# Altium footprint library Calibration_Scale.PcbLib: 19 footprints (part 1 of 2)
Each footprint in its own frame and in the unit in brackets; x right, y up, seen from the top. Pads: shape width x height; smd on the part's side, far side on the other; paste and mask are expansions set on the pad; w line width, h text height; cw(c..) or ccw(c..) is an arc to the next point about the centre after c.
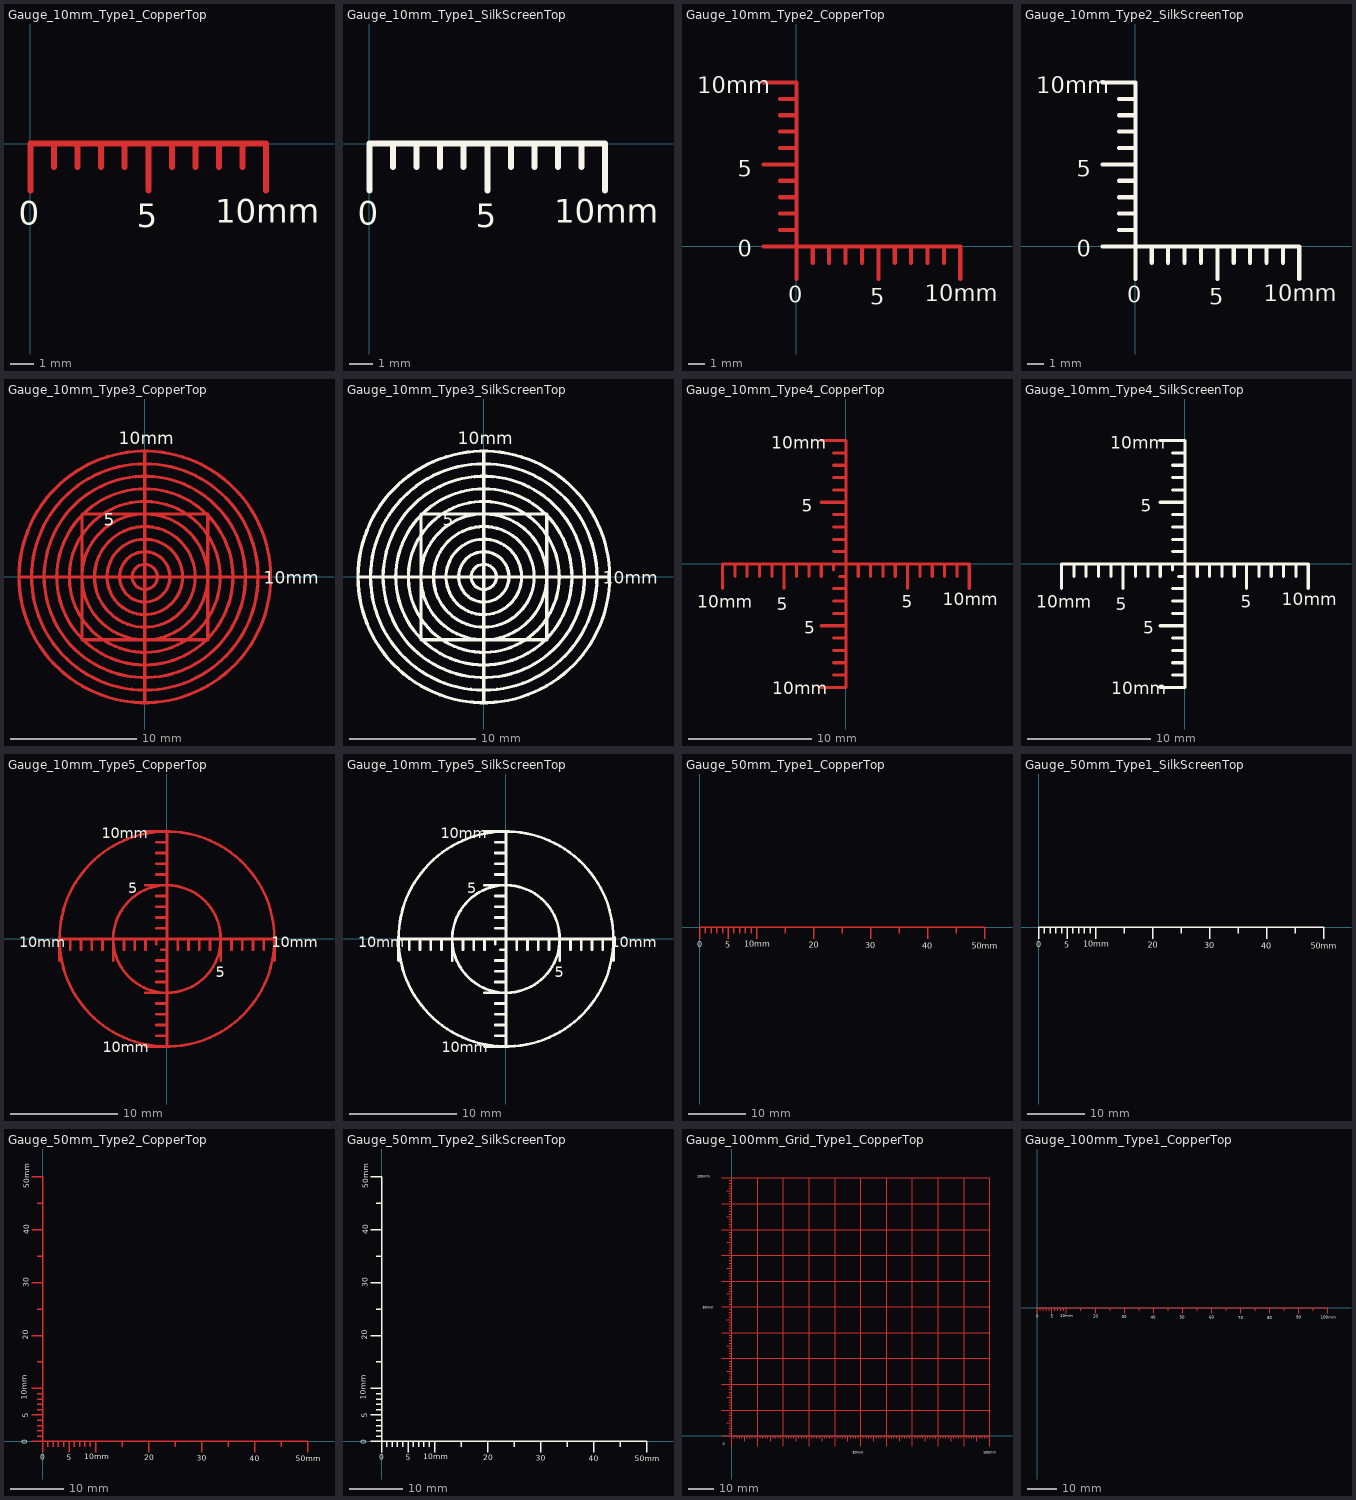
[diagram p0: the footprints below, top view; thin cyan lines are the x and y axes]

## Gauge_10mm_Type1_CopperTop [mm]
F.Cu:
  lines w0.254: 0,-1.999 0,0 10,0 10,-1.999 ; 1.001,-1.001 1.001,0 ; 1.999,-1.001 1.999,0 ; 3,-1.001 3,0 ; 4,-1.001 4,0 ; 5.001,-1.999 5.001,0 ; 5.999,-1.001 5.999,0 ; 7,-1.001 7,0 ; 8.001,-1.001 8.001,0 ; 8.999,-1.001 8.999,0
F.SilkS:
  text "0" at -0.483,-3.449 h1
  text "10mm" at 7.834,-3.35 h1
  text "5" at 4.515,-3.551 h1
Top Assembly:
  text "'.Designator'" at -4.047,2.159 h1
Top Designator:
  text ".Designator" at -3.708,-0.68 h1.52

## Gauge_10mm_Type1_SilkScreenTop [mm]
F.SilkS:
  lines w0.254: 0,-1.999 0,0 10,0 10,-1.999 ; 1.001,-1.001 1.001,0 ; 1.999,-1.001 1.999,0 ; 3,-1.001 3,0 ; 4,-1.001 4,0 ; 5.001,-1.999 5.001,0 ; 5.999,-1.001 5.999,0 ; 7,-1.001 7,0 ; 8.001,-1.001 8.001,0 ; 8.999,-1.001 8.999,0
  text "10mm" at 7.834,-3.35 h1
  text "5" at 4.515,-3.551 h1
  text "0" at -0.483,-3.449 h1
Top Assembly:
  text "'.Designator'" at -4.047,2.159 h1
Top Designator:
  text ".Designator" at -3.708,-0.68 h1.52

## Gauge_10mm_Type2_CopperTop [mm]
F.Cu:
  lines w0.254: -1.999,0 0,0 ; -1.999,5.001 0,5.001 ; -1.999,10 0,10 0,0 ; -1.001,1.001 0,1.001 ; -1.001,1.999 0,1.999 ; -1.001,3 0,3 ; -1.001,4 0,4 ; -1.001,5.999 0,5.999 ; -1.001,7 0,7 ; -1.001,8.001 0,8.001 ; -1.001,8.999 0,8.999 ; 0,-1.999 0,0 ; 1.001,-1.001 1.001,0 ; 1.999,-1.001 1.999,0 ; 3,-1.001 3,0 ; 4,-1.001 4,0 ; 5.001,-1.999 5.001,0 ; 5.999,-1.001 5.999,0 ; 7,-1.001 7,0 ; 8.001,-1.001 8.001,0 ; 8.999,-1.001 8.999,0 ; 10,-1.999 10,0 0,0
F.SilkS:
  text "0" at -0.483,-3.449 h1
  text "10mm" at -6.068,9.35 h1
  text "5" at 4.515,-3.551 h1
  text "0" at -3.585,-0.65 h1
  text "10mm" at 7.834,-3.35 h1
  text "5" at -3.585,4.25 h1
Top Assembly:
  text "'.Designator'" at -11.746,-0.64 h1
Top Designator:
  text ".Designator" at -7.557,2.892 h1.52

## Gauge_10mm_Type2_SilkScreenTop [mm]
F.SilkS:
  lines w0.254: -1.999,0 0,0 ; -1.999,5.001 0,5.001 ; -1.999,10 0,10 0,0 ; -1.001,1.001 0,1.001 ; -1.001,1.999 0,1.999 ; -1.001,3 0,3 ; -1.001,4 0,4 ; -1.001,5.999 0,5.999 ; -1.001,7 0,7 ; -1.001,8.001 0,8.001 ; -1.001,8.999 0,8.999 ; 0,-1.999 0,0 ; 1.001,-1.001 1.001,0 ; 1.999,-1.001 1.999,0 ; 3,-1.001 3,0 ; 4,-1.001 4,0 ; 5.001,-1.999 5.001,0 ; 5.999,-1.001 5.999,0 ; 7,-1.001 7,0 ; 8.001,-1.001 8.001,0 ; 8.999,-1.001 8.999,0 ; 10,-1.999 10,0 0,0
  text "0" at -0.483,-3.449 h1
  text "5" at 4.515,-3.551 h1
  text "5" at -3.585,4.25 h1
  text "0" at -3.585,-0.65 h1
  text "10mm" at 7.834,-3.35 h1
  text "10mm" at -6.068,9.35 h1
Top Assembly:
  text "'.Designator'" at -11.746,-0.64 h1
Top Designator:
  text ".Designator" at -7.557,2.892 h1.52

## Gauge_10mm_Type3_CopperTop [mm]
F.Cu:
  circle w0.254: c0,0 r10
  circle w0.254: c0,0 r5.001
  circle w0.254: c0,0 r1.001
  circle w0.254: c0,0 r1.999
  circle w0.254: c0,0 r3
  circle w0.254: c0,0 r4
  circle w0.254: c0,0 r5.999
  circle w0.254: c0,0 r7
  circle w0.254: c0,0 r8.001
  circle w0.254: c0,0 r8.999
  lines w0.254: -10,0 -1.999,0 0,0 ; 0,-10 0,-1.999 0,0 ; 0,10 0,0 ; 10,0 0,0 ; -5.001,-5.001 0,-5.001 5.001,-5.001 5.001,0 5.001,5.001 0,5.001 -5.001,5.001 -5.001,0 -5.001,-5.001
F.SilkS:
  text "10mm" at -2.067,10.549 h1
  text "5" at -3.282,4.049 h1
  text "10mm" at 9.434,-0.551 h1
Top Assembly:
  text "'.Designator'" at -18.017,8.05 h1
Top Designator:
  text ".Designator" at -9.893,0.278 h1.52

## Gauge_10mm_Type3_SilkScreenTop [mm]
F.SilkS:
  circle w0.254: c0,0 r10
  circle w0.254: c0,0 r5.001
  circle w0.254: c0,0 r1.001
  circle w0.254: c0,0 r1.999
  circle w0.254: c0,0 r3
  circle w0.254: c0,0 r4
  circle w0.254: c0,0 r5.999
  circle w0.254: c0,0 r7
  circle w0.254: c0,0 r8.001
  circle w0.254: c0,0 r8.999
  lines w0.254: -10,0 -1.999,0 0,0 ; 0,-10 0,-1.999 0,0 ; 0,10 0,0 ; 10,0 0,0 ; -5.001,-5.001 0,-5.001 5.001,-5.001 5.001,0 5.001,5.001 0,5.001 -5.001,5.001 -5.001,0 -5.001,-5.001
  text "5" at -3.282,4.049 h1
  text "10mm" at -2.067,10.549 h1
  text "10mm" at 9.434,-0.551 h1
Top Assembly:
  text "'.Designator'" at -18.017,8.05 h1
Top Designator:
  text ".Designator" at -9.893,0.278 h1.52

## Gauge_10mm_Type4_CopperTop [mm]
F.Cu:
  lines w0.254: -10,-1.999 -10,0 0,0 ; -8.999,-1.001 -8.999,0 ; -8.001,-1.001 -8.001,0 ; -7,-1.001 -7,0 ; -5.999,-1.001 -5.999,0 ; -5.001,-1.999 -5.001,0 ; -4,-1.001 -4,0 ; -3,-1.001 -3,0 ; -1.999,-10 0,-10 0,-1.999 ; -1.999,-5.001 0,-5.001 ; -1.999,-1.001 -1.999,0 ; -1.999,5.001 0,5.001 ; -1.999,10 0,10 0,0 ; -1.001,-8.999 0,-8.999 ; -1.001,-8.001 0,-8.001 ; -1.001,-7 0,-7 ; -1.001,-5.999 0,-5.999 ; -1.001,-4 0,-4 ; -1.001,-3 0,-3 ; -1.001,-1.999 0,-1.999 ; -1.001,-0.5 -1.001,0 ; -1.001,1.001 0,1.001 ; -1.001,1.999 0,1.999 ; -1.001,3 0,3 ; -1.001,4 0,4 ; -1.001,5.999 0,5.999 ; -1.001,7 0,7 ; -1.001,8.001 0,8.001 ; -1.001,8.999 0,8.999 ; -0.5,-1.001 0,-1.001 ; 1.001,-1.001 1.001,0 ; 1.999,-1.001 1.999,0 ; 3,-1.001 3,0 ; 4,-1.001 4,0 ; 5.001,-1.999 5.001,0 ; 5.999,-1.001 5.999,0 ; 7,-1.001 7,0 ; 8.001,-1.001 8.001,0 ; 8.999,-1.001 8.999,0 ; 10,-1.999 10,0 0,0 ; 0,-1.999 0,0
F.SilkS:
  text "10mm" at -12.065,-3.551 h1
  text "10mm" at 7.834,-3.35 h1
  text "5" at -3.585,4.25 h1
  text "5" at -3.384,-5.649 h1
  text "5" at 4.515,-3.551 h1
  text "10mm" at -5.966,-10.551 h1
  text "10mm" at -6.068,9.35 h1
  text "5" at -5.584,-3.749 h1
Top Assembly:
  text "'.Designator'" at -4.847,13.16 h1
Top Designator:
  text ".Designator" at -7.717,1.321 h1.52

## Gauge_10mm_Type4_SilkScreenTop [mm]
F.SilkS:
  lines w0.254: -10,-1.999 -10,0 0,0 ; -8.999,-1.001 -8.999,0 ; -8.001,-1.001 -8.001,0 ; -7,-1.001 -7,0 ; -5.999,-1.001 -5.999,0 ; -5.001,-1.999 -5.001,0 ; -4,-1.001 -4,0 ; -3,-1.001 -3,0 ; -1.999,-10 0,-10 0,-1.999 ; -1.999,-5.001 0,-5.001 ; -1.999,-1.001 -1.999,0 ; -1.999,5.001 0,5.001 ; -1.999,10 0,10 0,0 ; -1.001,-8.999 0,-8.999 ; -1.001,-8.001 0,-8.001 ; -1.001,-7 0,-7 ; -1.001,-5.999 0,-5.999 ; -1.001,-4 0,-4 ; -1.001,-3 0,-3 ; -1.001,-1.999 0,-1.999 ; -1.001,-0.5 -1.001,0 ; -1.001,1.001 0,1.001 ; -1.001,1.999 0,1.999 ; -1.001,3 0,3 ; -1.001,4 0,4 ; -1.001,5.999 0,5.999 ; -1.001,7 0,7 ; -1.001,8.001 0,8.001 ; -1.001,8.999 0,8.999 ; -0.5,-1.001 0,-1.001 ; 1.001,-1.001 1.001,0 ; 1.999,-1.001 1.999,0 ; 3,-1.001 3,0 ; 4,-1.001 4,0 ; 5.001,-1.999 5.001,0 ; 5.999,-1.001 5.999,0 ; 7,-1.001 7,0 ; 8.001,-1.001 8.001,0 ; 8.999,-1.001 8.999,0 ; 10,-1.999 10,0 0,0 ; 0,-1.999 0,0
  text "5" at 4.515,-3.551 h1
  text "10mm" at 7.834,-3.35 h1
  text "5" at -3.585,4.25 h1
  text "5" at -3.384,-5.649 h1
  text "5" at -5.584,-3.749 h1
  text "10mm" at -6.068,9.35 h1
  text "10mm" at -5.966,-10.551 h1
  text "10mm" at -12.065,-3.551 h1
Top Assembly:
  text "'.Designator'" at -4.847,13.16 h1
Top Designator:
  text ".Designator" at -7.717,1.321 h1.52

## Gauge_10mm_Type5_CopperTop [mm]
F.Cu:
  circle w0.254: c0,0 r10
  circle w0.254: c0,0 r5.001
  lines w0.254: -10,-1.999 -10,0 0,0 ; -8.999,-1.001 -8.999,0 ; -8.001,-1.001 -8.001,0 ; -7,-1.001 -7,0 ; -5.999,-1.001 -5.999,0 ; -5.001,-1.999 -5.001,0 ; -4,-1.001 -4,0 ; -3,-1.001 -3,0 ; -1.999,-10 0,-10 0,-1.999 ; -1.999,-5.001 0,-5.001 ; -1.999,-1.001 -1.999,0 ; -1.999,5.001 0,5.001 ; -1.999,10 0,10 0,0 ; -1.001,-8.999 0,-8.999 ; -1.001,-8.001 0,-8.001 ; -1.001,-7 0,-7 ; -1.001,-5.999 0,-5.999 ; -1.001,-4 0,-4 ; -1.001,-3 0,-3 ; -1.001,-1.999 0,-1.999 ; -1.001,-0.5 -1.001,0 ; -1.001,1.001 0,1.001 ; -1.001,1.999 0,1.999 ; -1.001,3 0,3 ; -1.001,4 0,4 ; -1.001,5.999 0,5.999 ; -1.001,7 0,7 ; -1.001,8.001 0,8.001 ; -1.001,8.999 0,8.999 ; -0.5,-1.001 0,-1.001 ; 1.001,-1.001 1.001,0 ; 1.999,-1.001 1.999,0 ; 3,-1.001 3,0 ; 4,-1.001 4,0 ; 5.001,-1.999 5.001,0 ; 5.999,-1.001 5.999,0 ; 7,-1.001 7,0 ; 8.001,-1.001 8.001,0 ; 8.999,-1.001 8.999,0 ; 10,-1.999 10,0 0,0 ; 0,-1.999 0,0
F.SilkS:
  text "10mm" at -13.766,-0.749 h1
  text "10mm" at -5.966,-10.551 h1
  text "10mm" at 9.734,-0.749 h1
  text "5" at 4.515,-3.551 h1
  text "10mm" at -6.068,9.35 h1
  text "5" at -3.585,4.25 h1
Top Assembly:
  text "'.Designator'" at -4.847,13.16 h1
Top Designator:
  text ".Designator" at -7.618,1.321 h1.52

## Gauge_10mm_Type5_SilkScreenTop [mm]
F.SilkS:
  circle w0.254: c0,0 r10
  circle w0.254: c0,0 r5.001
  lines w0.254: -10,-1.999 -10,0 0,0 ; -8.999,-1.001 -8.999,0 ; -8.001,-1.001 -8.001,0 ; -7,-1.001 -7,0 ; -5.999,-1.001 -5.999,0 ; -5.001,-1.999 -5.001,0 ; -4,-1.001 -4,0 ; -3,-1.001 -3,0 ; -1.999,-10 0,-10 0,-1.999 ; -1.999,-5.001 0,-5.001 ; -1.999,-1.001 -1.999,0 ; -1.999,5.001 0,5.001 ; -1.999,10 0,10 0,0 ; -1.001,-8.999 0,-8.999 ; -1.001,-8.001 0,-8.001 ; -1.001,-7 0,-7 ; -1.001,-5.999 0,-5.999 ; -1.001,-4 0,-4 ; -1.001,-3 0,-3 ; -1.001,-1.999 0,-1.999 ; -1.001,-0.5 -1.001,0 ; -1.001,1.001 0,1.001 ; -1.001,1.999 0,1.999 ; -1.001,3 0,3 ; -1.001,4 0,4 ; -1.001,5.999 0,5.999 ; -1.001,7 0,7 ; -1.001,8.001 0,8.001 ; -1.001,8.999 0,8.999 ; -0.5,-1.001 0,-1.001 ; 1.001,-1.001 1.001,0 ; 1.999,-1.001 1.999,0 ; 3,-1.001 3,0 ; 4,-1.001 4,0 ; 5.001,-1.999 5.001,0 ; 5.999,-1.001 5.999,0 ; 7,-1.001 7,0 ; 8.001,-1.001 8.001,0 ; 8.999,-1.001 8.999,0 ; 10,-1.999 10,0 0,0 ; 0,-1.999 0,0
  text "5" at -3.585,4.25 h1
  text "10mm" at -13.766,-0.749 h1
  text "10mm" at -5.966,-10.551 h1
  text "10mm" at -6.068,9.35 h1
  text "10mm" at 9.734,-0.749 h1
  text "5" at 4.515,-3.551 h1
Top Assembly:
  text "'.Designator'" at -4.847,13.16 h1
Top Designator:
  text ".Designator" at -7.618,1.321 h1.52

## Gauge_50mm_Type1_CopperTop [mm]
F.Cu:
  lines w0.254: 0,-1.999 0,0 10,0 ; 1.001,-1.001 1.001,0 ; 1.999,-1.001 1.999,0 ; 3,-1.001 3,0 ; 4,-1.001 4,0 ; 5.001,-1.999 5.001,0 ; 5.999,-1.001 5.999,0 ; 7,-1.001 7,0 ; 8.001,-1.001 8.001,0 ; 8.999,-1.001 8.999,0 ; 10,-1.999 10,0 ; 15.001,-1.001 15.001,0 ; 20,-1.999 20,0 ; 25.001,-1.001 25.001,0 ; 30,-1.999 30,0 ; 35.001,-1.001 35.001,0 ; 40,-1.999 40,0 ; 45.001,-1.001 45.001,0 ; 50,-1.999 50,0 10,0
F.SilkS:
  text "40" at 39.072,-3.751 h1
  text "5" at 4.515,-3.551 h1
  text "20" at 19.171,-3.551 h1
  text "30" at 29.072,-3.65 h1
  text "0" at -0.483,-3.449 h1
  text "50mm" at 47.755,-3.751 h1
  text "10mm" at 7.834,-3.35 h1
Top Assembly:
  text "'.Designator'" at -4.047,2.159 h1
Top Designator:
  text ".Designator" at 16.331,-0.78 h1.52

## Gauge_50mm_Type1_SilkScreenTop [mm]
F.SilkS:
  lines w0.254: 0,-1.999 0,0 10,0 ; 1.001,-1.001 1.001,0 ; 1.999,-1.001 1.999,0 ; 3,-1.001 3,0 ; 4,-1.001 4,0 ; 5.001,-1.999 5.001,0 ; 5.999,-1.001 5.999,0 ; 7,-1.001 7,0 ; 8.001,-1.001 8.001,0 ; 8.999,-1.001 8.999,0 ; 10,-1.999 10,0 ; 15.001,-1.001 15.001,0 ; 20,-1.999 20,0 ; 25.001,-1.001 25.001,0 ; 30,-1.999 30,0 ; 35.001,-1.001 35.001,0 ; 40,-1.999 40,0 ; 45.001,-1.001 45.001,0 ; 50,-1.999 50,0 10,0
  text "50mm" at 47.755,-3.751 h1
  text "5" at 4.515,-3.551 h1
  text "30" at 29.072,-3.65 h1
  text "20" at 19.171,-3.551 h1
  text "40" at 39.072,-3.751 h1
  text "0" at -0.483,-3.449 h1
  text "10mm" at 7.834,-3.35 h1
Top Assembly:
  text "'.Designator'" at -4.047,2.159 h1
Top Designator:
  text ".Designator" at 16.331,-0.78 h1.52

## Gauge_50mm_Type2_CopperTop [mm]
F.Cu:
  lines w0.254: -1.999,0 0,0 ; -1.999,5.001 0,5.001 ; -1.999,10 0,10 ; -1.999,20 0,20 ; -1.999,30 0,30 ; -1.999,40 0,40 ; -1.999,50 0,50 0,0 ; -1.001,1.001 0,1.001 ; -1.001,1.999 0,1.999 ; -1.001,3 0,3 ; -1.001,4 0,4 ; -1.001,5.999 0,5.999 ; -1.001,7 0,7 ; -1.001,8.001 0,8.001 ; -1.001,8.999 0,8.999 ; -1.001,15.001 0,15.001 ; -1.001,25.001 0,25.001 ; -1.001,35.001 0,35.001 ; -1.001,45.001 0,45.001 ; 0,-1.999 0,0 ; 1.001,-1.001 1.001,0 ; 1.999,-1.001 1.999,0 ; 3,-1.001 3,0 ; 4,-1.001 4,0 ; 5.001,-1.999 5.001,0 ; 5.999,-1.001 5.999,0 ; 7,-1.001 7,0 ; 8.001,-1.001 8.001,0 ; 8.999,-1.001 8.999,0 ; 10,-1.999 10,0 ; 15.001,-1.001 15.001,0 ; 20,-1.999 20,0 ; 25.001,-1.001 25.001,0 ; 30,-1.999 30,0 ; 35.001,-1.001 35.001,0 ; 40,-1.999 40,0 ; 45.001,-1.001 45.001,0 ; 50,-1.999 50,0 10,0 ; 0,0 10,0
F.SilkS:
  text "50mm" at -2.548,47.758 h1
  text "0" at -2.85,-0.481 h1
  text "20" at 19.171,-3.551 h1
  text "50mm" at 47.755,-3.751 h1
  text "30" at -2.65,29.074 h1
  text "40" at 39.072,-3.751 h1
  text "5" at -2.749,4.518 h1
  text "10mm" at 7.834,-3.35 h1
  text "5" at 4.515,-3.551 h1
  text "20" at -2.749,19.173 h1
  text "40" at -2.548,39.074 h1
  text "0" at -0.483,-3.449 h1
  text "30" at 29.072,-3.65 h1
  text "10mm" at -2.949,7.836 h1
Top Assembly:
  text "'.Designator'" at 16.454,-10.84 h1
Top Designator:
  text ".Designator" at 16.38,19.879 h1.52

## Gauge_50mm_Type2_SilkScreenTop [mm]
F.SilkS:
  lines w0.254: -1.999,0 0,0 ; -1.999,5.001 0,5.001 ; -1.999,10 0,10 ; -1.999,20 0,20 ; -1.999,30 0,30 ; -1.999,40 0,40 ; -1.999,50 0,50 0,0 ; -1.001,1.001 0,1.001 ; -1.001,1.999 0,1.999 ; -1.001,3 0,3 ; -1.001,4 0,4 ; -1.001,5.999 0,5.999 ; -1.001,7 0,7 ; -1.001,8.001 0,8.001 ; -1.001,8.999 0,8.999 ; -1.001,15.001 0,15.001 ; -1.001,25.001 0,25.001 ; -1.001,35.001 0,35.001 ; -1.001,45.001 0,45.001 ; 0,-1.999 0,0 ; 1.001,-1.001 1.001,0 ; 1.999,-1.001 1.999,0 ; 3,-1.001 3,0 ; 4,-1.001 4,0 ; 5.001,-1.999 5.001,0 ; 5.999,-1.001 5.999,0 ; 7,-1.001 7,0 ; 8.001,-1.001 8.001,0 ; 8.999,-1.001 8.999,0 ; 10,-1.999 10,0 ; 15.001,-1.001 15.001,0 ; 20,-1.999 20,0 ; 25.001,-1.001 25.001,0 ; 30,-1.999 30,0 ; 35.001,-1.001 35.001,0 ; 40,-1.999 40,0 ; 45.001,-1.001 45.001,0 ; 50,-1.999 50,0 10,0 ; 0,0 10,0
  text "0" at -2.85,-0.481 h1
  text "50mm" at -2.548,47.758 h1
  text "10mm" at 7.834,-3.35 h1
  text "5" at -2.749,4.518 h1
  text "20" at 19.171,-3.551 h1
  text "40" at 39.072,-3.751 h1
  text "30" at 29.072,-3.65 h1
  text "50mm" at 47.755,-3.751 h1
  text "20" at -2.749,19.173 h1
  text "40" at -2.548,39.074 h1
  text "10mm" at -2.949,7.836 h1
  text "0" at -0.483,-3.449 h1
  text "5" at 4.515,-3.551 h1
  text "30" at -2.65,29.074 h1
Top Assembly:
  text "'.Designator'" at 16.454,-10.84 h1
Top Designator:
  text ".Designator" at 16.38,19.879 h1.52

## Gauge_100mm_Grid_Type1_CopperTop [mm]
F.Cu:
  lines w0.254: -4,0 0,0 ; -4,10 0,10 100,10 ; -4,20 0,20 100,20 ; -4,30 0,30 100,30 ; -4,40 0,40 100,40 ; -4,50 0,50 100,50 ; -4,60 0,60 100,60 ; -4,70 0,70 100,70 ; -4,80 0,80 100,80 ; -4,90 0,90 100,90 ; -4,100 -1.999,100 0,100 ; -1.999,5.001 0,5.001 ; -1.999,15.001 0,15.001 ; -1.999,25.001 0,25.001 ; -1.999,35.001 0,35.001 ; -1.999,45.001 0,45.001 ; -1.999,55.001 -1.001,55.001 0,55.001 ; -1.999,65.001 0,65.001 ; -1.999,75.001 0,75.001 ; -1.999,85.001 0,85.001 ; -1.999,95.001 0,95.001 ; -1.001,1.001 0,1.001 ; -1.001,1.999 0,1.999 ; -1.001,3 0,3 ; -1.001,4 0,4 ; -1.001,5.999 0,5.999 ; -1.001,7 0,7 ; -1.001,8.001 0,8.001 ; -1.001,8.999 0,8.999 ; -1.001,11.001 0,11.001 ; -1.001,11.999 0,11.999 ; -1.001,13 0,13 ; -1.001,14 0,14 ; -1.001,15.999 0,15.999 ; -1.001,17 0,17 ; -1.001,18.001 0,18.001 ; -1.001,18.999 0,18.999 ; -1.001,21.001 0,21.001 ; -1.001,21.999 0,21.999 ; -1.001,23 0,23 ; -1.001,24 0,24 ; -1.001,25.999 0,25.999 ; -1.001,27 0,27 ; -1.001,28.001 0,28.001 ; -1.001,28.999 0,28.999 ; -1.001,31.001 0,31.001 ; -1.001,31.999 0,31.999 ; -1.001,33 0,33 ; -1.001,34 0,34 ; -1.001,35.999 0,35.999 ; -1.001,37 0,37 ; -1.001,38.001 0,38.001 ; -1.001,38.999 0,38.999 ; -1.001,41.001 0,41.001 ; -1.001,41.999 0,41.999 ; -1.001,43 0,43 ; -1.001,44 0,44 ; -1.001,45.999 0,45.999 ; -1.001,47 0,47 ; -1.001,48.001 0,48.001 ; -1.001,48.999 0,48.999 ; -1.001,51.001 0,51.001 ; -1.001,51.999 0,51.999 ; -1.001,53 0,53 ; -1.001,54 0,54 ; -1.001,55.999 0,55.999 ; -1.001,57 0,57 ; -1.001,58.001 0,58.001 ; -1.001,58.999 0,58.999 ; -1.001,61.001 0,61.001 ; -1.001,61.999 0,61.999 ; -1.001,63 0,63 ; -1.001,64 0,64 ; -1.001,65.999 0,65.999 ; -1.001,67 0,67 ; -1.001,68.001 0,68.001 ; -1.001,68.999 0,68.999 ; -1.001,71.001 0,71.001 ; -1.001,71.999 0,71.999 ; -1.001,73 0,73 ; -1.001,74 0,74 ; -1.001,75.999 0,75.999 ; -1.001,77 0,77 ; -1.001,78.001 0,78.001 ; -1.001,78.999 0,78.999 ; -1.001,81.001 0,81.001 ; -1.001,81.999 0,81.999 ; -1.001,83 0,83 ; -1.001,84 0,84 ; -1.001,85.999 0,85.999 ; -1.001,87 0,87 ; -1.001,88.001 0,88.001 ; -1.001,88.999 0,88.999 ; -1.001,91.001 0,91.001 ; -1.001,91.999 0,91.999 ; -1.001,93 0,93 ; -1.001,94 0,94 ; -1.001,95.999 0,95.999 ; -1.001,97 0,97 ; -1.001,98.001 0,98.001 ; -1.001,98.999 0,98.999 ; 0,-4 0,0 ; 1.001,-1.001 1.001,0 ; 1.999,-1.001 1.999,0 ; 3,-1.001 3,0 ; 4,-1.001 4,0 ; 5.001,-1.999 5.001,0 ; 5.999,-1.001 5.999,0 ; 7,-1.001 7,0 ; 8.001,-1.001 8.001,0 ; 8.999,-1.001 8.999,0 ; 10,-4 10,0 10,100 ; 11.001,-1.001 11.001,0 ; 11.999,-1.001 11.999,0 ; 13,-1.001 13,0 ; 14,-1.001 14,0 ; 15.001,-1.999 15.001,0 ; 15.999,-1.001 15.999,0 ; 17,-1.001 17,0 ; 18.001,-1.001 18.001,0 ; 18.999,-1.001 18.999,0 ; 20,-4 20,0 20,100 ; 21.001,-1.001 21.001,0 ; 21.999,-1.001 21.999,0 ; 23,-1.001 23,0 ; 24,-1.001 24,0 ; 25.001,-1.999 25.001,0 ; 25.999,-1.001 25.999,0 ; 27,-1.001 27,0 ; 28.001,-1.001 28.001,0 ; 28.999,-1.001 28.999,0 ; 30,-4 30,0 30,100 ; 31.001,-1.001 31.001,0 ; 31.999,-1.001 31.999,0 ; 33,-1.001 33,0 ; 34,-1.001 34,0 ; 35.001,-1.999 35.001,0 ; 35.999,-1.001 35.999,0 ; 37,-1.001 37,0 ; 38.001,-1.001 38.001,0 ; 38.999,-1.001 38.999,0 ; 40,-4 40,0 40,100 ; 41.001,-1.001 41.001,0 ; 41.999,-1.001 41.999,0 ; 43,-1.001 43,0 ; 44,-1.001 44,0 ; 45.001,-1.999 45.001,0 ; 45.999,-1.001 45.999,0 ; 47,-1.001 47,0 ; 48.001,-1.001 48.001,0 ; 48.999,-1.001 48.999,0 ; 50,-4 50,0 50,100 ; 51.001,-1.001 51.001,0 ; 51.999,-1.001 51.999,0 ; 53,-1.001 53,0 ; 54,-1.001 54,0 ; 55.001,-1.999 55.001,0 ; 55.999,-1.001 55.999,0 ; 57,-1.001 57,0 ; 58.001,-1.001 58.001,0 ; 58.999,-1.001 58.999,0 ; 60,-4 60,0 60,100 ; 61.001,-1.001 61.001,0 ; 61.999,-1.001 61.999,0 ; 63,-1.001 63,0 ; 64,-1.001 64,0 ; 65.001,-1.999 65.001,0 ; 65.999,-1.001 65.999,0 ; 67,-1.001 67,0 ; 68.001,-1.001 68.001,0 ; 68.999,-1.001 68.999,0 ; 70,-4 70,0 70,100 ; 71.001,-1.001 71.001,0 ; 71.999,-1.001 71.999,0 ; 73,-1.001 73,0 ; 74,-1.001 74,0 ; 75.001,-1.999 75.001,0 ; 75.999,-1.001 75.999,0 ; 77,-1.001 77,0 ; 78.001,-1.001 78.001,0 ; 78.999,-1.001 78.999,0 ; 80,-4 80,0 80,100 ; 81.001,-1.001 81.001,0 ; 81.999,-1.001 81.999,0 ; 83,-1.001 83,0 ; 84,-1.001 84,0 ; 85.001,-1.999 85.001,0 ; 85.999,-1.001 85.999,0 ; 87,-1.001 87,0 ; 88.001,-1.001 88.001,0 ; 88.999,-1.001 88.999,0 ; 90,-4 90,0 90,100 ; 91.001,-1.001 91.001,0 ; 91.999,-1.001 91.999,0 ; 93,-1.001 93,0 ; 94,-1.001 94,0 ; 95.001,-1.999 95.001,0 ; 95.999,-1.001 95.999,0 ; 97,-1.001 97,0 ; 98.001,-1.001 98.001,0 ; 98.999,-1.001 98.999,0 ; 100,-4 100,0 ; 0,0 100,0 ; 0,0 0,100 ; 0,100 100,100 100,0
F.SilkS:
  text "100mm" at 97.49,-6.853 h1
  text "100mm" at -13.511,100.147 h1
  text "0" at -3.483,-3.65 h1
  text "50mm" at -11.244,49.35 h1
  text "50mm" at 46.856,-6.853 h1
Top Assembly:
  text "'.Designator'" at 2.953,-21.841 h1
Top Designator:
  text ".Designator" at 36.834,38.979 h1.52

## Gauge_100mm_Type1_CopperTop [mm]
F.Cu:
  lines w0.254: 0,-1.999 0,0 10,0 ; 1.001,-1.001 1.001,0 ; 1.999,-1.001 1.999,0 ; 3,-1.001 3,0 ; 4,-1.001 4,0 ; 5.001,-1.999 5.001,0 ; 5.999,-1.001 5.999,0 ; 7,-1.001 7,0 ; 8.001,-1.001 8.001,0 ; 8.999,-1.001 8.999,0 ; 10,-1.999 10,0 ; 15.001,-1.001 15.001,0 ; 20,-1.999 20,0 ; 25.001,-1.001 25.001,0 ; 30,-1.999 30,0 ; 35.001,-1.001 35.001,0 ; 40,-1.999 40,0 ; 45.001,-1.001 45.001,0 ; 50,-1.999 50,0 ; 55.001,-1.001 55.001,0 ; 60,-1.999 60,0 ; 65.001,-1.001 65.001,0 ; 70,-1.999 70,0 ; 75.001,-1.001 75.001,0 ; 80,-1.999 80,0 ; 85.001,-1.001 85.001,0 ; 90,-1.999 90,0 ; 95.001,-1.001 95.001,0 ; 100,-1.999 100,0 10,0
F.SilkS:
  text "90" at 89.173,-3.853 h1
  text "100mm" at 97.49,-3.853 h1
  text "0" at -0.483,-3.449 h1
  text "10mm" at 7.834,-3.35 h1
  text "5" at 4.515,-3.551 h1
  text "20" at 19.171,-3.551 h1
  text "50" at 49.071,-3.751 h1
  text "60" at 59.098,-3.751 h1
  text "40" at 39.072,-3.751 h1
  text "80" at 79.071,-4.051 h1
  text "30" at 29.072,-3.65 h1
  text "70" at 69.071,-3.952 h1
Top Assembly:
  text "'.Designator'" at -4.047,2.159 h1
Top Designator:
  text ".Designator" at 41.565,-0.93 h1.52